# Altium footprint library Mach3.PcbLib: 11 footprints
Each footprint in its own frame and in the unit in brackets; x right, y up, seen from the top. Pads: shape width x height; smd on the part's side, far side on the other; paste and mask are expansions set on the pad; w line width, h text height; cw(c..) or ccw(c..) is an arc to the next point about the centre after c.
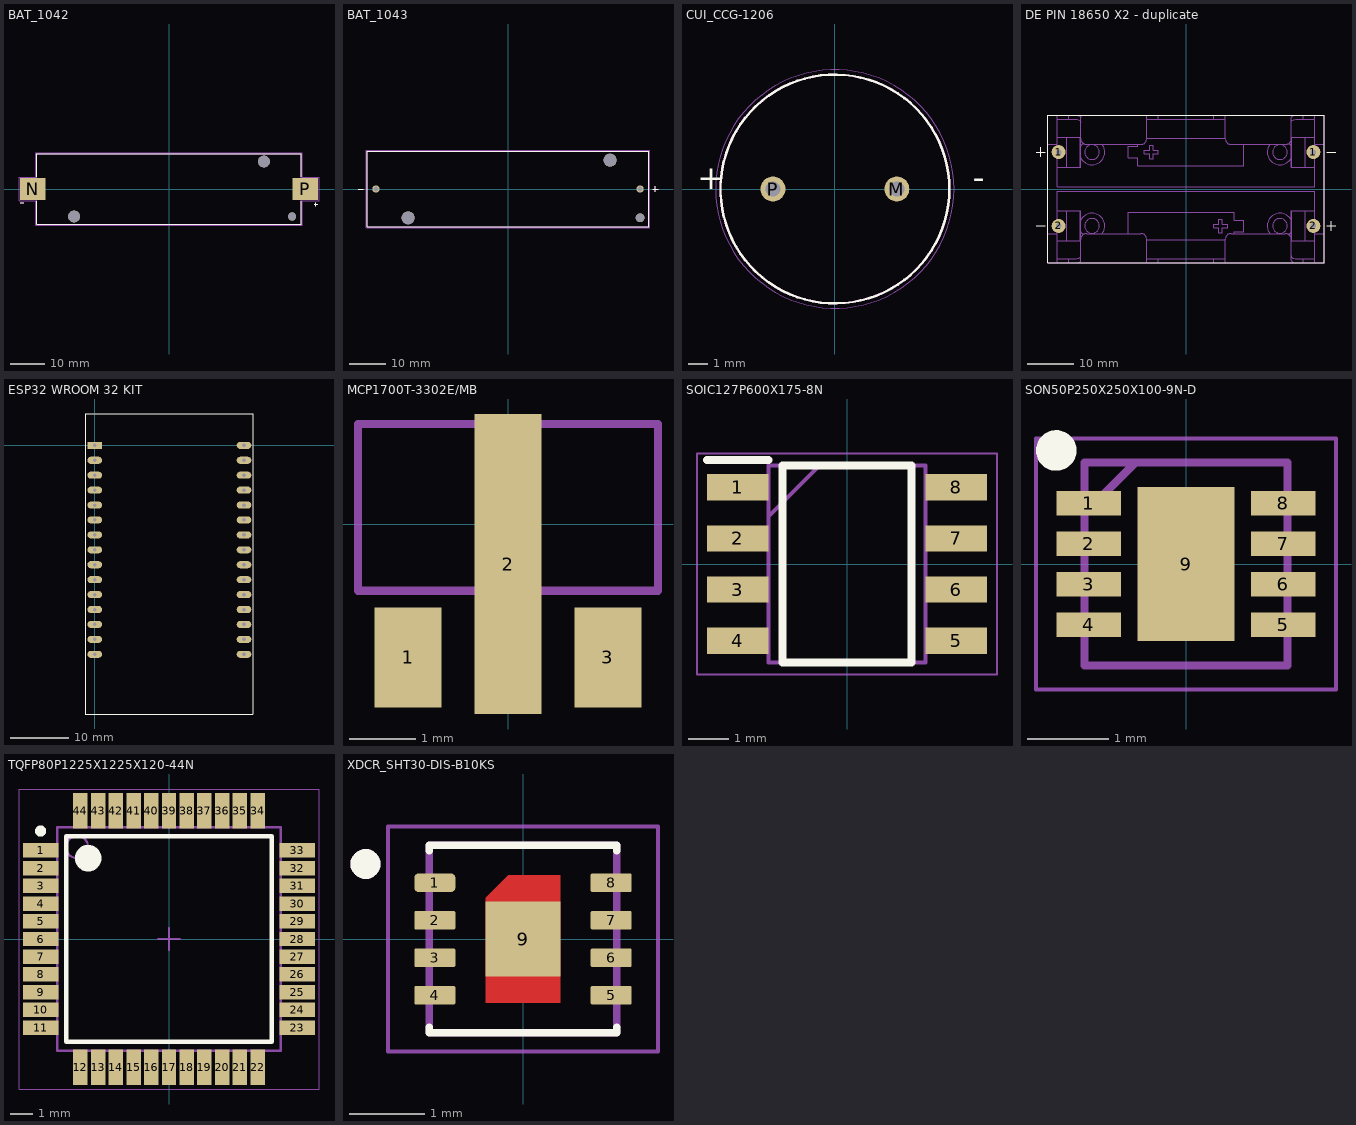
[diagram p0: the footprints below, top view; thin cyan lines are the x and y axes]

## BAT_1042 [mm]
height 15.11
pads (5):
  rect 7.46x6.47 smd: N(-39.67,0) P(39.67,0)
  round 3.45 hole 3.45 unplated: ""(-27.6,-8) ""(27.6,8)
  round 2.39 hole 2.39 unplated: ""(35.82,-8)
Top Overlay:
  lines w0.127: -43.25,-4 -42.25,-4 ; -38.525,-3.55 -38.525,-10.325 38.525,-10.325 38.525,-3.55 ; -38.525,3.55 -38.525,10.325 38.525,10.325 38.525,3.55 ; 42.25,-4.5 43.25,-4.5 ; 42.75,-5 42.75,-4
Mechanical 13:
  lines w0.127: -43.25,-4 -42.25,-4 ; 42.25,-4.5 43.25,-4.5 ; 42.75,-5 42.75,-4 ; -38.525,-10.325 38.525,-10.325 38.525,10.325 -38.525,10.325 -38.525,-10.325
Mechanical 15:
  lines w0.05: -43.65,-3.485 -38.775,-3.485 -38.775,-10.575 38.775,-10.575 38.775,-3.485 43.65,-3.485 43.65,3.485 38.775,3.485 38.775,10.575 -38.775,10.575 -38.775,3.485 -43.65,3.485 -43.65,-3.485
3D body "step_temp.STEP": height 14.86, standoff -3.43, extent -43.231,-10.325 43.231,10.325

## BAT_1043 [mm]
height 14.86
pads (5):
  round 1.98 hole 1.32: N(-36.11,0) P(36.11,0)
  round 3.55 hole 3.55 unplated: ""(-27.29,-7.87) ""(27.91,7.87)
  round 2.39 hole 2.39 unplated: ""(36.11,-7.87)
Top Overlay:
  lines w0.127: -41,0 -39.5,0 ; 39.5,0 41,0 ; 40.25,-0.75 40.25,0.75 ; -38.525,-10.325 38.525,-10.325 38.525,10.325 -38.525,10.325 -38.525,-10.325
Mechanical 13:
  lines w0.127: -41,0 -39.5,0 ; 39.5,0 41,0 ; 40.25,-0.75 40.25,0.75 ; -38.525,-10.325 38.525,-10.325 38.525,10.325 -38.525,10.325 -38.525,-10.325
Mechanical 15:
  lines w0.05: -38.775,-10.575 38.775,-10.575 38.775,10.575 -38.775,10.575 -38.775,-10.575
3D body "step_temp.STEP": height 14.86, standoff -3.56, extent -38.532,-10.325 38.532,10.325

## CUI_CCG-1206 [mm]
pads (2):
  round 1.308 hole 0.8: M(3.25,0) P(-3.25,0)
Top Overlay:
  circle w0.127: c0,0 r6
  text "-" at 7.225,0 h1.27
  text "+" at -7.23,0 h1.28
Mechanical 13:
  circle w0.127: c0,0 r6
Mechanical 15:
  circle w0.05: c0,0 r6.25
3D body "step_temp.STEP": height 10, standoff -3.3, extent -6,-6 6,6

## DE PIN 18650 X2 - duplicate [mil] "2-cell AA battery holder"
height 660
pads (4):
  round 120 hole 48: 1(-1086.61,314.96) 1(1086.61,314.96) 2(-1086.61,-314.96) 2(1086.61,-314.96)
Top Overlay:
  lines w5: -1279.53,-314.96 -1200.79,-314.96 ; -1279.53,314.96 -1200.79,314.96 ; -1240.16,275.59 -1240.16,354.33 ; 1200.79,-314.96 1279.53,-314.96 ; 1200.79,314.96 1279.53,314.96 ; 1240.16,-354.33 1240.16,-275.59
  lines w7.87: -1181.1,-629.92 -1181.1,629.92 1181.1,629.92 1181.1,-629.92 -1181.1,-629.92
Mechanical 13:
  drawing of 198 lines, arcs and shapes, not listed
3D body "User Library-Battery-AAA.STEP": height 595.47, standoff 191.93, extent -918.03,-470 828.03,-66.45
3D body "User Library-Battery-AAA.STEP": height 595.47, standoff 191.93, extent -958.03,55 788.03,458.55
3D body "2xAA Battery Holder.STEP": height 657.48, standoff -118.11, extent -1181.1,-629.91 1181.1,629.93

## ESP32 WROOM 32 KIT [mm]
pads (30):
  rect 2.5x1.2 hole 0.6: 1(0,0)
  oval 2.5x1.2 hole 0.6: 2(0,-2.54) 3(0,-5.08) 4(0,-7.62) 5(0,-10.16) 6(0,-12.7) 7(0,-15.24) 8(0,-17.78) 9(0,-20.32) 10(0,-22.86) 11(0,-25.4) 12(0,-27.94) 13(0,-30.48) 14(0,-33.02) 15(0,-35.56) 16(25.4,-35.56) 17(25.4,-33.02) 18(25.4,-30.48) 19(25.4,-27.94) 20(25.4,-25.4) 21(25.4,-22.86) 22(25.4,-20.32) 23(25.4,-17.78) 24(25.4,-15.24) 25(25.4,-12.7) 26(25.4,-10.16) 27(25.4,-7.62) 28(25.4,-5.08) 29(25.4,-2.54) 30(25.4,0)
Top Overlay:
  lines w0.2: -1.651,-45.72 -1.651,5.334 13.335,5.334 26.924,5.334 26.924,-45.72 -1.651,-45.72
3D body "ESP-WROOM32.STEP": height 10.49, standoff -1.91, extent -1.651,-45.596 26.849,5.334

## MCP1700T-3302E/MB [mm]
pads (3):
  rect 1x1.5 smd: 1(-1.5,-2) 3(1.5,-2)
  rect 1x4.5 smd: 2(0,-0.6)
Mechanical 13:
  lines w0.127: -2.25,-1 -2.25,1.5 2.25,1.5 2.25,-1 -2.25,-1
3D body "step_temp.STEP": height 1.2, standoff -0.4, extent -2.25,-2.268 2.25,1.827

## PCBComponent_1 [mm]

## SOIC127P600X175-8N [mm]
pads (8):
  rect 1.525x0.65 smd: 1(-2.712,1.905) 2(-2.712,0.635) 3(-2.712,-0.635) 4(-2.712,-1.905) 5(2.712,-1.905) 6(2.712,-0.635) 7(2.712,0.635) 8(2.712,1.905)
Top Overlay:
  lines w0.2: -3.475,2.58 -1.95,2.58 ; -1.6,-2.45 1.6,-2.45 1.6,2.45 -1.6,2.45 -1.6,-2.45
Mechanical 13:
  lines w0.1: -1.95,1.18 -0.68,2.45 ; -1.95,-2.45 1.95,-2.45 1.95,2.45 -1.95,2.45 -1.95,-2.45
Mechanical 15:
  lines w0.05: -3.725,-2.75 3.725,-2.75 3.725,2.75 -3.725,2.75 -3.725,-2.75
3D body "NE555DR.stp": height 1.75, standoff 0, extent -3,-2.45 3,2.45

## SON50P250X250X100-9N-D [mm]
pads (9):
  rect 0.8x0.3 smd: 1(-1.2,0.75) 2(-1.2,0.25) 3(-1.2,-0.25) 4(-1.2,-0.75) 5(1.2,-0.75) 6(1.2,-0.25) 7(1.2,0.25) 8(1.2,0.75)
  rect 1.2x1.9 smd: 9(0,0)
Top Overlay:
  circle w0.25: c-1.6,1.4 r0.125
Mechanical 13:
  lines w0.1: -1.25,0.625 -0.625,1.25 ; -1.25,-1.25 1.25,-1.25 1.25,1.25 -1.25,1.25 -1.25,-1.25
Mechanical 15:
  lines w0.05: -1.85,-1.55 1.85,-1.55 1.85,1.55 -1.85,1.55 -1.85,-1.55
3D body "SHT30-DIS-B10KS.stp": height 1, standoff 0, extent -1.3,-1.25 1.3,1.25

## TQFP80P1225X1225X120-44N [mm] "TQFP, 44-Leads, Body 10.10x10.10mm, Pitch 0.80mm, IPC Medium Density"
height 1.2
pads (44):
  rect 1.6x0.65 smd: 1(-5.8,4) 2(-5.8,3.2) 3(-5.8,2.4) 4(-5.8,1.6) 5(-5.8,0.8) 6(-5.8,0) 7(-5.8,-0.8) 8(-5.8,-1.6) 9(-5.8,-2.4) 10(-5.8,-3.2) 11(-5.8,-4) 23(5.8,-4) 24(5.8,-3.2) 25(5.8,-2.4) 26(5.8,-1.6) 27(5.8,-0.8) 28(5.8,0) 29(5.8,0.8) 30(5.8,1.6) 31(5.8,2.4) 32(5.8,3.2) 33(5.8,4)
  rect 0.65x1.6 smd: 12(-4,-5.8) 13(-3.2,-5.8) 14(-2.4,-5.8) 15(-1.6,-5.8) 16(-0.8,-5.8) 17(0,-5.8) 18(0.8,-5.8) 19(1.6,-5.8) 20(2.4,-5.8) 21(3.2,-5.8) 22(4,-5.8) 34(4,5.8) 35(3.2,5.8) 36(2.4,5.8) 37(1.6,5.8) 38(0.8,5.8) 39(0,5.8) 40(-0.8,5.8) 41(-1.6,5.8) 42(-2.4,5.8) 43(-3.2,5.8) 44(-4,5.8)
Top Overlay:
  circle w0.6: c-3.65,3.65 r0.3
  circle w0.25: c-5.8,4.875 r0.125
  lines w0.2: -4.65,-4.65 4.65,-4.65 4.65,4.65 -4.65,4.65 -4.65,-4.65
Mechanical 13:
  circle w0.1: c-4.15,4.15 r0.5
  lines w0.1: -5.05,-5.05 5.05,-5.05 5.05,5.05 -5.05,5.05 -5.05,-5.05
Mechanical 15:
  lines w0.05: -6.775,-6.775 6.775,-6.775 6.775,6.775 -6.775,6.775 -6.775,-6.775
  lines w0.1: -0.5,0 0.5,0 ; 0,-0.5 0,0.5
3D body "TQFP80P1225X1225X120-44N.step": height 1.2, standoff 0, extent -6.125,-6.125 6.125,6.125

## XDCR_SHT30-DIS-B10KS [mm]
pads (9):
  rrect50% 0.55x0.25 smd mask+0: 1(-1.175,0.75)
  rrect20% 0.55x0.25 smd mask+0: 2(-1.175,0.25) 3(-1.175,-0.25) 4(-1.175,-0.75) 5(1.175,-0.75) 6(1.175,-0.25) 7(1.175,0.25) 8(1.175,0.75)
  rect 1x1 smd paste-1 mask+0: 9(0,0)
Top Layer:
  region: 0.5,-0.85 -0.5,-0.85 -0.5,0.55 -0.2,0.85 0.5,0.85
Top Overlay:
  circle w0.2: c-2.1,1 r0.1
  lines w0.1: -1.25,-1.175 -1.25,-1.25 1.25,-1.25 1.25,-1.175 ; -1.25,1.175 -1.25,1.25 1.25,1.25 1.25,1.175
Top Paste:
  region: 0.4,-0.75 -0.4,-0.75 -0.4,0.45 -0.1,0.75 0.4,0.75
Top Solder:
  drawing of 9 lines, arcs and shapes, not listed
Mechanical 13:
  circle w0.2: c-2.1,1 r0.1
  lines w0.1: -1.25,-1.25 -1.25,1.25 1.25,1.25 1.25,-1.25 -1.25,-1.25
Mechanical 15:
  lines w0.05: -1.8,-1.5 -1.8,1.5 1.8,1.5 1.8,-1.5 -1.8,-1.5